# Altium schematic symbol library MacroPlay.SchLib: 33 symbols
Pins are listed as number, name and electrical type; pins without a type are passive.

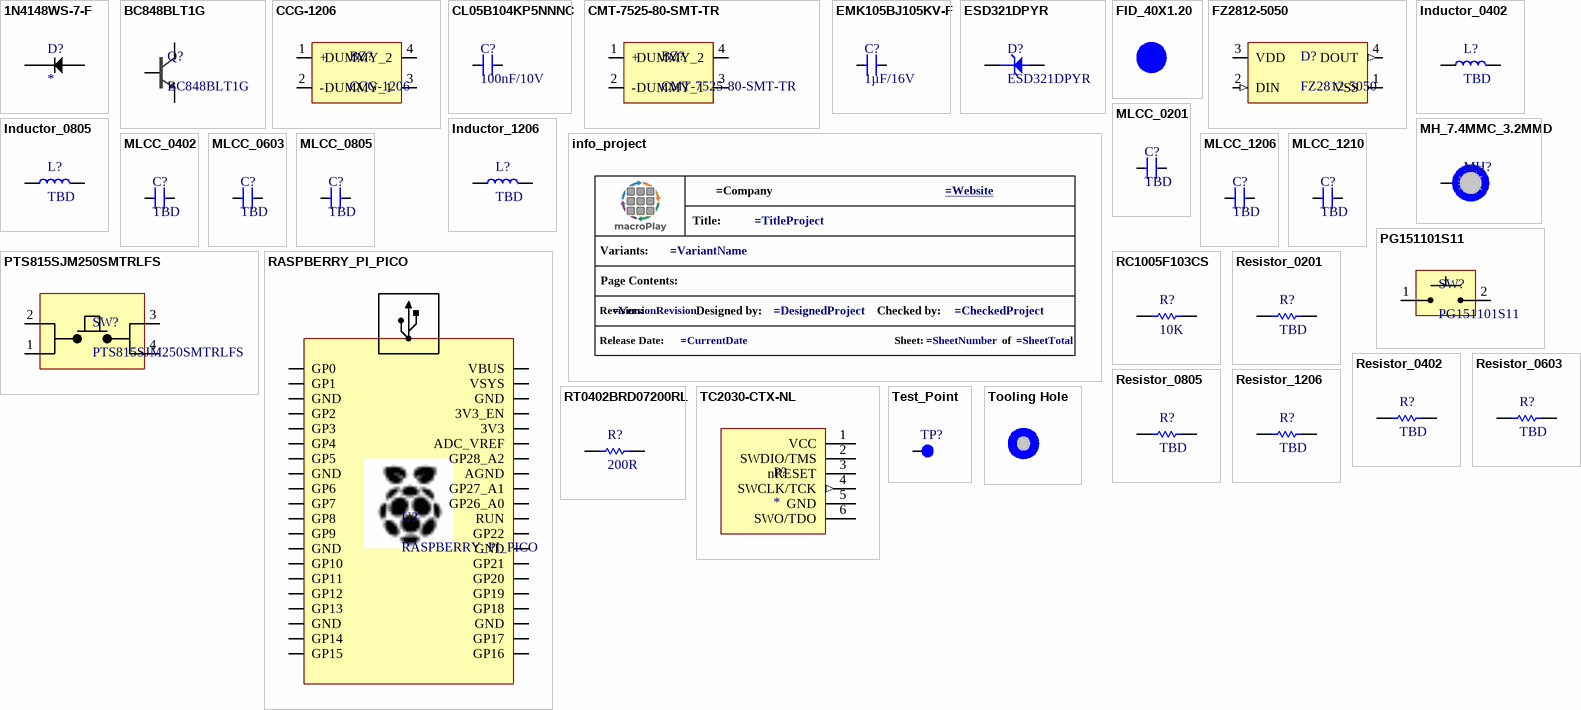
[diagram p0: symbols 1N4148WS-7-F to Tooling Hole]

## 1N4148WS-7-F
designator D?
DIODE - Diode 75 V 150mA Surface Mount SOD-323; Manufacturer_Name: Diodes Incorporated; Manufacturer_Part_Number: 1N4148WS-7-F; Datasheet Link: https://www.diodes.com//assets/Datasheets/1N4148WS_BAV16WS.pdf; Height: 1.2mm; Mouser Part Number: 621-1N4148WS-F; Mouser Price/Stock: https://www.mouser.co.uk/ProductDetail/Diodes-Incorporated/1N4148WS-7-F?qs=4drIV0IxA0r8aNy7%2Fu4kVw%3D%3D; Arrow Part Number: 1N4148WS-7-F; Arrow Price/Stock: https://www.arrow.com/en/products/1n4148ws-7-f/diodes-incorporated?utm_currency=USD&region=europe
footprint SOD2513X120N
pins: 1, 2

## BC848BLT1G
designator Q?
TRANS - NPN 30V 100mA 300mW SOT23-3.; Manufacturer 1: ON Semiconductor; Emitter Base Voltage (VEBO): 5V; Collector Emitter Saturation Voltage: 600mV; Transition Frequency: 100MHz; hFE Min: 200; Number of Elements: 1; Description 1: NPN Ic=100mA Vceo=30V hfe=200~450 P=225mW SOT-23; Category 1: BJTs; .Mounting: SMT; .PCBChecked: Lucas Vieira; Case/Package: SOT-23-3; Pins: 3; Contact Plating: Tin,Matte; Min Operating Temperature: -55°C; Max Operating Temperature: 150°C; Packaging: Tape and Reel; Polarity: NPN; Collector Emitter Breakdown Voltage: 30V; Max Power Dissipation: 300mW; Package Quantity: 3000; Collector Base Voltage (VCBO): 30V; Max Collector Current: 100mA; Max Breakdown Voltage: 30V; Power Dissipation: 300mW; Clock Frequency: 100MHz; Voltage Rating (DC): 30V; Current Rating: 100mA; Collector-emitter Voltage-Max: 600mV; Series: -; Collector Emitter Voltage (VCEO): 30V; Frequency: 100MHz; Gain Bandwidth Product: 100MHz; Length: 2.9mm; Width: 1.3mm; Height: 0.94mm; Radiation Hardening: No; Lead Free: Lead Free; Reach SVHC Compliant: No; RoHS Compliant: Yes; ComponentLink1URL: https://datasheet.ciiva.com/15139/getdatasheetpartid-87781-15139134.pdf?src-supplier=Verical; ComponentLink1Description: https://datasheet.ciiva.com/15139/getdatasheetpartid-87781-15139134.pdf?src-supplier=Verical; ComponentLink2URL: https://datasheet.ciiva.com/7971/bc846alt1-d-7971962.pdf?src-supplier=Element14; ComponentLink2Description: https://datasheet.ciiva.com/7971/bc846alt1-d-7971962.pdf?src-supplier=Element14; ComponentLink3URL: https://datasheet.ciiva.com/7971/bc846alt1-d-7971960.pdf?src-supplier=Element14; ComponentLink3Description: https://datasheet.ciiva.com/7971/bc846alt1-d-7971960.pdf?src-supplier=Element14; ComponentLink4URL: https://datasheet.ciiva.com/11204/bc846alt1-d-11204358.pdf?src-supplier=Avnet; ComponentLink4Description: https://datasheet.ciiva.com/11204/bc846alt1-d-11204358.pdf?src-supplier=Avnet; ComponentLink5URL: https://datasheet.ciiva.com/11198/bc846alt1-d-11198026.pdf?src-supplier=Avnet; ComponentLink5Description: https://datasheet.ciiva.com/11198/bc846alt1-d-11198026.pdf?src-supplier=Avnet; ComponentLink6URL: https://datasheet.ciiva.com/976/bc846alt1-d-976387.pdf?src-supplier=Digi-Key; ComponentLink6Description: https://datasheet.ciiva.com/976/bc846alt1-d-976387.pdf?src-supplier=Digi-Key; ComponentLink7URL: https://datasheet.ciiva.com/976/bc846alt1-d-976388.pdf?src-supplier=Digi-Key; ComponentLink7Description: https://datasheet.ciiva.com/976/bc846alt1-d-976388.pdf?src-supplier=Digi-Key; ComponentLink8URL: https://datasheet.ciiva.com/976/bc846alt1-d-976386.pdf?src-supplier=Digi-Key; ComponentLink8Description: https://datasheet.ciiva.com/976/bc846alt1-d-976386.pdf?src-supplier=Digi-Key; Supplier 1: Digi-Key; Supplier Part Number 1: BC848BLT1GOSCT-ND; Manufacturer Part Number 1: BC848BLT1G; RoHS 1: Yes; Stock 1: 199953; Pricing 1: 1=0,14, 10=0,131, 100=0,0712, 500=0,04384, 1000=0,02989 (USD); Manufacturer 2: ON Semiconductor; Manufacturer Part Number 2: SBC848BLT1G; Manufacturer 3: Nexperia USA Inc.; Manufacturer Part Number 3: BC848B,215; .SCHChecked: Lucas Vieira
footprint SOT-23-3 (SOT23, 3-Leads, Body 2,90x2,40mm, Pitch 1,05mm, IPC Medium Density)
pins: 1 Base, 2 Emitter, 3 Collector

## CCG-1206
designator BZ?
BUZZER - 12 mm, 5 V, 85 dB, Through Hole, Sealed, Magnetic Audio Transducer Buzzer; MF: Same Sky; .Mounting: PTH; SnapEDA_Link: https://www.snapeda.com/parts/CCG-1206/Same+Sky/view-part/?ref=snap; Package: None; Value: *; MP: CCG-1206; Check_prices: https://www.snapeda.com/parts/CCG-1206/Same+Sky/view-part/?ref=eda; .SCHChecked: *; .PCBChecked: *
footprint CUI_CCG-1206
pins: 1 +, 2 -, 3 DUMMY_1, 4 DUMMY_2

## CL05B104KP5NNNC
designator C?, comment 100nF/10V
MLCC - 100nF 10V X7R 0402 ±10%; Manufacturer 1: Samsung; Manufacturer Part Number 1: CL05B104KP5NNNC; Dielectric Material: Ceramic; Multilayer: Yes; .Mounting: SMT; Supplier: Digikey; Supplier Part Number: 1276-1002-1-ND; RoHS: Yes; Category: Ceramic Capacitors; Stock: 29591550; Pricing: 1=0,08, 10=0,004, 100=0,0036, 1000=0,0032 (USD); Mounting Technology: Surface Mount; Pins: 2; Package Shape: Rectangular; Case/Package: 0402; Terminal Finish: Nickel; Min Operating Temperature: -55°C; Max Operating Temperature: 125°C; JESD-609 Code: e3; Value: 100nF; Capacitor Type: Ceramic; Tolerance  (fill in as +-): 10%; Package Style: SMTMeter; Packaging: Tape and Reel; Tolerance (fill in as +-): 10%; Rated DC Voltage (URdc): 10V; Temperature Characteristics Code: X7R; Termination: Wraparound; Length: 1mm; Width: 0.5mm; Height: 0.5mm; Reach SVHC Compliant: Yes; RoHS Compliant: Yes; ComponentLink1URL: https://datasheet.ciiva.com:443/pdfs/VipMasterIC/IC/SEMS/SEMS-S-A0008523115/SEMS-S-A0008523129-1.pdf?src-supplier=IHS+Markit; ComponentLink1Description: https://datasheet.ciiva.com:443/pdfs/VipMasterIC/IC/SEMS/SEMS-S-A0008523115/SEMS-S-A0008523129-1.pdf?src-supplier=IHS+Markit; ComponentLink2URL: https://datasheet.ciiva.com/15165/getdatasheetpartid-37100-15165107.pdf?src-supplier=Verical; ComponentLink2Description: https://datasheet.ciiva.com/15165/getdatasheetpartid-37100-15165107.pdf?src-supplier=Verical; ComponentLink3URL: https://datasheet.ciiva.com/16498/cl05b104kq5nnnc-16498491.pdf?src-supplier=Future+Electronics; ComponentLink3Description: https://datasheet.ciiva.com/16498/cl05b104kq5nnnc-16498491.pdf?src-supplier=Future+Electronics; .PCBChecked: *; .SCHChecked: *
footprint C0402 - Iron Soldering (C0402 but easier to solder with iron solder instead of an furnace or heat bed)
pins: 1, 2

## CMT-7525-80-SMT-TR
designator BZ?
BUZZER - Buzzers Transducer, Externally Driven Magnetic 3.6 V 100mA 2.73kHz 80dB @ 3.6V, 10cm Surface Mount Solder Pads; Manufacturer_Name: Same Sky; Datasheet Link: https://www.sameskydevices.com/product/resource/CMT-7525-80-SMT-TR.pdf; Height: 2.7mm; Manufacturer_Part_Number: CMT-7525-80-SMT-TR; Mouser Part Number: 490-CMT-7525-80SMTTR; Mouser Price/Stock: https://www.mouser.co.uk/ProductDetail/Same-Sky/CMT-7525-80-SMT-TR?qs=P1JMDcb91o5izP7Xira9ww%3D%3D; Arrow Part Number: CMT-7525-80-SMT-TR; Arrow Price/Stock: https://www.arrow.com/en/products/cmt-7525-80-smt-tr/cui-devices?region=nac
footprint CMT752580SMTTR
pins: 1 +, 2 -, 3 DUMMY_1, 4 DUMMY_2

## EMK105BJ105KV-F
designator C?, comment 1µF/16V
MLCC - 1µF 16V 0402 X5R ±10%.; Manufacturer 1: Taiyo Yuden; Manufacturer Part Number 1: EMK105BJ105KV-F; Dielectric Material: Ceramic; Value: 1uF; Multilayer: Yes; Tolerance  (fill in as +-): 10%; .Mounting: SMT; Supplier 1: Avnet; Supplier Part Number 1: 84R9109; RoHS: Yes; Category: Ceramic Capacitors; Stock: 100000; Pricing: 10000=0,007, 20000=0,008 (USD); Mounting Technology: Surface Mount; Pins: 2; Package Shape: Rectangular; Case/Package: 0402; Terminal Finish: Nickel; Min Operating Temperature: -55°C; Max Operating Temperature: 85°C; JESD-609 Code: e3; Capacitor Type: Ceramic; Package Style: SMTMeter; Packaging: Tape and Reel; Tolerance (fill in as +-): 10%; Rated DC Voltage (URdc): 16V; Temperature Characteristics Code: X5R; Termination: Wraparound; Length: 1mm; Width: 0.5mm; Height: 0.5mm; Reach SVHC Compliant: Yes; RoHS Compliant: Yes; ComponentLink1URL: https://datasheet.ciiva.com:443/pdfs/VipMasterIC/IC/TAIY/TAIY-S-A0009096450/TAIY-S-A0009096597-1.pdf?src-supplier=IHS+Markit; ComponentLink1Description: https://datasheet.ciiva.com:443/pdfs/VipMasterIC/IC/TAIY/TAIY-S-A0009096450/TAIY-S-A0009096597-1.pdf?src-supplier=IHS+Markit; ComponentLink2URL: https://datasheet.ciiva.com/134/emk105bj105kv-f-ss-134209.pdf?src-supplier=Digikey; ComponentLink2Description: https://datasheet.ciiva.com/134/emk105bj105kv-f-ss-134209.pdf?src-supplier=Digikey; ComponentLink3URL: https://datasheet.ciiva.com/30259/265emk105bj105kv-f-30259872.pdf?src-supplier=Onlinecomponents.com; ComponentLink3Description: https://datasheet.ciiva.com/30259/265emk105bj105kv-f-30259872.pdf?src-supplier=Onlinecomponents.com; ComponentLink4URL: https://datasheet.ciiva.com/15920/964emk105bj105kv-f-15920402.pdf?src-supplier=Onlinecomponents.com; ComponentLink4Description: https://datasheet.ciiva.com/15920/964emk105bj105kv-f-15920402.pdf?src-supplier=Onlinecomponents.com; ComponentLink5URL: https://datasheet.ciiva.com/26871/getdatasheetpartid-638287-26871289.pdf?src-supplier=Verical; ComponentLink5Description: https://datasheet.ciiva.com/26871/getdatasheetpartid-638287-26871289.pdf?src-supplier=Verical; ComponentLink6URL: https://datasheet.ciiva.com/5424/mlcc01-e-5424190.pdf?src-supplier=Mouser; ComponentLink6Description: https://datasheet.ciiva.com/5424/mlcc01-e-5424190.pdf?src-supplier=Mouser; ComponentLink7URL: https://datasheet.ciiva.com/22694/1497285-22694239.pdf?src-supplier=Element14; ComponentLink7Description: https://datasheet.ciiva.com/22694/1497285-22694239.pdf?src-supplier=Element14; ComponentLink8URL: https://datasheet.ciiva.com/7657/1497285-7657320.pdf?src-supplier=Element14; ComponentLink8Description: https://datasheet.ciiva.com/7657/1497285-7657320.pdf?src-supplier=Element14; .PCBChecked: *; .SCHChecked: *
footprint C0402 - Iron Soldering (C0402 but easier to solder with iron solder instead of an furnace or heat bed)
pins: 1, 2

## ESD321DPYR
designator D?
DIODE - TVS UNI-DIR 3.6V, 4.5V, 6.8V, 6A, 0.9pF.; Manufacturer 1: Texas Instruments; Description 1: ESD Suppressor Diode TVS Uni-Dir 3.6V 2-Pin X1SON T/R; Category 1: TVS Diodes; .Mouting: SMT; .SCHChecked: Lucas Vieira; RoHS Compliant: Yes; ComponentLink1URL: http://www.ti.com/general/docs/suppproductinfo.tsp?distId=10&amp;gotoUrl=http%3A%2F%2Fwww.ti.com%2Flit%2Fgpn%2Fesd321&src-supplier=Digi-Key; ComponentLink1Description: http://www.ti.com/general/docs/suppproductinfo.tsp?distId=10&amp;gotoUrl=http%3A%2F%2Fwww.ti.com%2Flit%2Fgpn%2Fesd321&src-supplier=Digi-Key; Supplier 1: Digi-Key; Supplier Part Number 1: 296-51108-1-ND; Manufacturer Part Number 1: ESD321DPYR; RoHS 1: Yes; Stock 1: 172519; Pricing 1: 1=0,37000, 10=0,29900, 100=0,20350, 500=0,15264, 1000=0,11448, 2000=0,10494, 5000=0,09858 (USD); Manufacturer 2: Texas Instruments; Manufacturer Part Number 2: ESD351DPYR; .PCBChecked: Lucas Vieira; Manufacturer 3: Panjit International Inc.; Manufacturer Part Number 3: PE1605M1Q_R1_00001; .Mounting: SMT
footprint ESD321DPYR
pins: 1, 2

## FID_40X1.20
designator FID?  (value not drawn)  (no BOM)
Fiducials
footprint FID_40X1.20

## FZ2812-5050
designator D?
DIODE - Addressable Lighting * 3 LED Discrete Serial Red, Green, Blue (RGB) 5.00mm L x 5.00mm W; MF: Feztek; .Mounting: SMD; Package: None; Price: None; Check_prices: https://www.snapeda.com/parts/FZ2812-5050/E%2526E/view-part/?ref=eda; Value: *; SnapEDA_Link: https://www.snapeda.com/parts/FZ2812-5050/E%2526E/view-part/?ref=snap; MP: FZ2812-5050; Availability: In Stock; Purchase-URL: https://pricing.snapeda.com/search?q=FZ2812-5050&ref=eda; .PCBChecked: *; .SCHChecked: *
footprint LED_FZ2812-5050
pins: 1 VSS (power), 2 DIN (in), 3 VDD (power), 4 DOUT (out)

## Inductor_0402
designator L?, comment TBD
INDUCTOR - TBD 0402
footprint L0402
pins: 1, 2

## Inductor_0805
designator L?, comment TBD
INDUCTOR - TBD 0805
footprint L0805
pins: 1, 2

## Inductor_1206
designator L?, comment TBD
INDUCTOR - TBD 1206
footprint L1206 (Chip Capacitor, 2-Leads, Body 3.20x1.60mm, IPC Medium Density)
pins: 1, 2

## info_project
designator GPH?  (value not drawn)  (graphical)
GRAPHICAL - Info Project
text: Title:; Variants:; Page Contents:; Revision:; Designed by:; Checked by:; Release Date:; Sheet:; of

## MH_7.4MMC_3.2MMD
designator MH?  (value not drawn)  (no BOM)
Mounting Hole 7.4mm Diameter 3.2mm Drill
footprint MH_7.4MMC_3.2MMD
pins: 1

## MLCC_0201
designator C?, comment TBD
MLCC - TBD 0201
footprint C0201
pins: 1, 2

## MLCC_0402
designator C?, comment TBD
MLCC - TBD 0402
footprint C0402
pins: 1, 2

## MLCC_0603
designator C?, comment TBD
MLCC - TBD 0603
footprint C0603
pins: 1, 2

## MLCC_0805
designator C?, comment TBD
MLCC - TBD 0805
footprint C0805
pins: 1, 2

## MLCC_1206
designator C?, comment TBD
MLCC - TBD 1206
footprint C1206 (Chip Capacitor, 2-Leads, Body 3.20x1.60mm, IPC Medium Density)
pins: 1, 2

## MLCC_1210
designator C?, comment TBD
MLCC - TBD 1210
footprint C1210
pins: 1, 2

## PG151101S11
designator SW?
SWITCH - Kailh socket for hotswap mechanical switches; .Mounting: SMD; SnapEDA_Link: https://www.snapeda.com/parts/PG151101S11/Kailh/view-part/?ref=snap; Package: Package; Value: *; MF: Kailh; MP: PG151101S11; Check_prices: https://www.snapeda.com/parts/PG151101S11/Kailh/view-part/?ref=eda; .PCBChecked: *; .SCHChecked: *
footprint SW_PG151101S11
pins: 1, 2

## PTS815SJM250SMTRLFS
designator SW?
SWITCH - Tactile Switch SPST-NO Top Actuated Surface Mount; Manufacturer 1: ITT C&K; .Mounting: SMT; Supplier: Digikey; Supplier Part Number: CKN12215-1-ND; Manufacturer Part Number 1: PTS815SJM250SMTRLFS; RoHS: Yes; Category: Tactile Switches; Stock: 10550; Pricing: 1=0,22, 10=0,191, 25=0,1788, 100=0,1606, 250=0,14892, 500=0,14052, 1000=0,13263 (USD); ComponentLink1URL: https://datasheet.octopart.com/PTS815-SJM-250-SMTR-LFS-C%26K-Components-datasheet-175421037.pdf?src-supplier=Element14; ComponentLink1Description: https://datasheet.octopart.com/PTS815-SJM-250-SMTR-LFS-C%26K-Components-datasheet-175421037.pdf?src-supplier=Element14; ComponentLink2URL: https://dznh3ojzb2azq.cloudfront.net/products/Tactile/PTS815/documents/datasheet.pdf?src-supplier=Digikey; ComponentLink2Description: https://dznh3ojzb2azq.cloudfront.net/products/Tactile/PTS815/documents/datasheet.pdf?src-supplier=Digikey; ComponentLink3URL: https://datasheet.octopart.com/PTS815-SJM-250-SMTR-LFS-C%26K-Components-datasheet-175421037.pdf?src-supplier=Farnell; ComponentLink3Description: https://datasheet.octopart.com/PTS815-SJM-250-SMTR-LFS-C%26K-Components-datasheet-175421037.pdf?src-supplier=Farnell; ComponentLink4URL: https://datasheet.octopart.com/PTS815SJM250SMTRLFS-C%26K-Components-datasheet-166147782.pdf?src-supplier=TME; ComponentLink4Description: https://datasheet.octopart.com/PTS815SJM250SMTRLFS-C%26K-Components-datasheet-166147782.pdf?src-supplier=TME; .SCHChecked: *; .PCBChecked: *
footprint PTS526SK15SMTR2_LFS
pins: 1 COM_1, 2 COM_2, 3 NO_1, 4 NO_2

## RASPBERRY_PI_PICO
designator U?
MCU Module - Raspberry Pi Board, Arm Cortex-M0+; Core Architecture:Arm; Core Sub-Architecture:Cortex-M0+; Kit Contents:Raspberry Pi Pico Board; No. Of Bits:32Bit; Silicon Core Number:Rp2040; Silicon Manufacturer:Raspberry Pi |Raspberry-Pi RASPBERRY PI PICO; .Mounting: SMD or PTH variant; SnapEDA_Link: https://www.snapeda.com/parts/RASPBERRY%20PI%20PICO/Raspberry+Pi/view-part/?ref=snap; Package: None; Value: *; MF: Raspberry Pi; MP: RASPBERRY PI PICO; Check_prices: https://www.snapeda.com/parts/RASPBERRY%20PI%20PICO/Raspberry+Pi/view-part/?ref=eda; .PCBChecked: *; .SCHChecked: *
footprint RASPBERRY_PI_PICO
pins: 3V3, 3V3_EN, ADC_VREF, AGND, GND, GND, GND, GND, GND, GND, GND, GP0, GP1, GP2, GP3, GP4, GP5, GP6, GP7, GP8, GP9, GP10, GP11, GP12, GP13, GP14, GP15, GP16, GP17, GP18, GP19, GP20, GP21, GP22, GP26_A0, GP27_A1, GP28_A2, RUN, VBUS, VSYS

## RC1005F103CS
designator R?, comment 10K
RES - 10K 1/16W 0402 ±1% Chip Resistor; Manufacturer 1: Samsung; Manufacturer Part Number 1: RC1005F103CS; Power: 60mW; Value: 10kR; Working Voltage: 50V; Temperature Coefficient (ppm/Cel): 100; Package Height: 0.35mm; Package Length: 1mm; Package Width: 0.5mm; .Mounting: SMT; Supplier: Digikey; Supplier Part Number: 1276-3431-1-ND; RoHS: Yes; Category: Chip SMD Resistors; Stock: 10935408; Pricing: 1=0,1, 10=0,039, 100=0,0201, 1000=0,01175, 2500=0,0099, 5000=0,00882 (USD); Mounting Technology: Surface Mount; Pins: 2; Package Shape: Rectangular; Case/Package: 0402; Terminal Finish: Nickel; Min Operating Temperature: -55°C; Max Operating Temperature: 125°C; Tolerance: 1%; JESD-609 Code: e3; Resistor Type: FIXED RESISTOR; Construction: Chip; Packaging: Tape and Reel; Technology: METAL GLAZE/THICK FILM; Reach SVHC Compliant: Yes; RoHS Compliant: Yes; ComponentLink1URL: https://datasheet.ciiva.com:443/pdfs/VipMasterIC/IC/SEMS/SEMS-S-A0001326806/SEMS-S-A0001326806-1.pdf?src-supplier=IHS+Markit; ComponentLink1Description: https://datasheet.ciiva.com:443/pdfs/VipMasterIC/IC/SEMS/SEMS-S-A0001326806/SEMS-S-A0001326806-1.pdf?src-supplier=IHS+Markit; ComponentLink2URL: https://datasheet.ciiva.com/15196/getdatasheetpartid-504789-15196214.pdf?src-supplier=Verical; ComponentLink2Description: https://datasheet.ciiva.com/15196/getdatasheetpartid-504789-15196214.pdf?src-supplier=Verical; ComponentLink3URL: https://datasheet.ciiva.com/16481/rcseries-16481007.pdf?src-supplier=Future+Electronics; ComponentLink3Description: https://datasheet.ciiva.com/16481/rcseries-16481007.pdf?src-supplier=Future+Electronics; .PCBChecked: *; .SCHChecked: *
footprint R0402 - IronSolder (R0402 but easier to solder with iron solder instead of an furnace or heat bed)
pins: 1, 2

## Resistor_0201
designator R?, comment TBD
Resistor - TBD 0201
footprint R0201
pins: 1, 2

## Resistor_0402
designator R?, comment TBD
Resistor - TBD 0402
footprint R0402
pins: 1, 2

## Resistor_0603
designator R?, comment TBD
Resistor - TBD 0603
footprint R0603
pins: 1, 2

## Resistor_0805
designator R?, comment TBD
Resistor - TBD 0805
footprint R0805
pins: 1, 2

## Resistor_1206
designator R?, comment TBD
Resistor - TBD 1206
footprint R1206
pins: 1, 2

## RT0402BRD07200RL
designator R?, comment 200R
RES - 200R  0.0625W 0402 0.1%  50V Fixed Resistor, Thin Film; Manufacturer Part Number 1: RT0402BRD07200RL; Manufacturer 1: Yageo; Additional Feature: HIGH PRECISION; Power: 62.5mW; Rated Temperature: 70°C; Temperature Coefficient (ppm/Cel): 25; Package Height: 0.3mm; Package Length: 1mm; Package Width: 0.5mm; .Mounting: SMT; Supplier: Avnet; Supplier Part Number: 49AK4062; RoHS: Yes; Category: Chip SMD Resistors; Stock: 8493; Pricing: 1=0,198, 25=0,135, 100=0,098, 250=0,087, 500=0,077 (USD); Mounting Technology: Surface Mount; Pins: 2; Case/Package: 0402; Min Operating Temperature: -55°C; Max Operating Temperature: 155°C; Tolerance: 0.1%; Resistor Type: FIXED RESISTOR; Construction: Chip; Packaging: Tape and Reel; Value: 200R; Technology: THIN FILM; Termination: Wraparound; Working Voltage: 50V; Reach SVHC Compliant: Yes; RoHS Compliant: Yes; ComponentLink1URL: https://datasheet.ciiva.com:443/pdfs/VipMasterIC/IC/YAGO/YAGO-S-A0008510989/YAGO-S-A0008510989-1.pdf?src-supplier=IHS+Markit; ComponentLink1Description: https://datasheet.ciiva.com:443/pdfs/VipMasterIC/IC/YAGO/YAGO-S-A0008510989/YAGO-S-A0008510989-1.pdf?src-supplier=IHS+Markit; ComponentLink2URL: https://datasheet.ciiva.com/12705/pyu-rt-1-to-0-05-rohs-l-4-12705967.pdf?src-supplier=Mouser; ComponentLink2Description: https://datasheet.ciiva.com/12705/pyu-rt-1-to-0-05-rohs-l-4-12705967.pdf?src-supplier=Mouser; ComponentLink3URL: https://datasheet.ciiva.com/46635/pyu-rt-1-to-0-05-rohs-l-5-46635174.pdf?src-supplier=Digikey; ComponentLink3Description: https://datasheet.ciiva.com/46635/pyu-rt-1-to-0-05-rohs-l-5-46635174.pdf?src-supplier=Digikey; ComponentLink4URL: https://datasheet.ciiva.com/2582/pyu-rt-1-to-0-05-rohs-l-4-2582220.pdf?src-supplier=Digikey; ComponentLink4Description: https://datasheet.ciiva.com/2582/pyu-rt-1-to-0-05-rohs-l-4-2582220.pdf?src-supplier=Digikey; .SCHChecked: *; .PCBChecked: *
footprint R0402 - IronSolder (R0402 but easier to solder with iron solder instead of an furnace or heat bed)
pins: 1, 2

## TC2030-CTX-NL
designator P?  (no BOM)
6 pin Tag-Connect; .SCHChecked: Alex Batista; .PCBChecked: Alex Batista
footprint TC2030-CTX-NL
pins: 1 VCC, 2 SWDIO/TMS, 3 nRESET, 4 SWCLK/TCK (out), 5 GND, 6 SWO/TDO

## Test_Point
designator TP?, comment TestPoint  (value not drawn)  (no BOM)
MECH - Test Points
footprint Test Point
pins: 1

## Tooling Hole
designator TH?  (value not drawn)  (no BOM)
MECH - Tooling Holes
footprint Tooling Hole